# Altium schematic symbol library T59EE476M050C0100.SchLib: 1 symbol
Pins are listed as number, name and electrical type; pins without a type are passive.

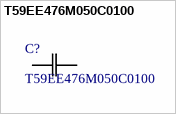
[diagram p0: symbol T59EE476M050C0100]

## T59EE476M050C0100
designator C?
PRELIMINARY T59476M050EE2T0100; Manufacturer_Name: Vishay; Copyright: Copyright (C) 2025 Ultra Librarian. All rights reserved.; Manufacturer_Part_Number: T59EE476M050C0100
footprint CAP_T59EE_VIS
pins: 1, 2